# EAGLE library part LPC4322JBD144 (library nxp_60_1_1)
32-bit ARM Cortex-M4/M0 MCU; up to 1 MB flash and 136 kB SRAM; Ethernet, two High-speed USB, LCD, EMC The LPC435x/3x/2x/1x are ARM Cortex-M4 based microcontrollers for embedded applications which include an ARM Cortex-M0 coprocessor, up to 1 MB of flash and 136 kB of on-chip SRAM, 16 kB of EEPROM memory, a quad SPI Flash Interface (SPIFI), advanced configurable peripherals such as the State Configurable Timer (SCT) and the Serial General Purpose I/O (SGPIO) interface, two High-speed USB controllers, Ethernet, LCD, an external memory controller, and multiple digital and analog peripherals. The LPC435x/3x/2x/1x operate at CPU frequencies of up to 204 MHz. The ARM Cortex-M4 is a next generation 32-bit core that offers system enhancements such as low power consumption, enhanced debug features, and a high level of support block integration. The ARM Cortex-M4 CPU incorporates a 3-stage pipeline, uses a Harvard architecture with separate local instruction and data buses as well as a third bus for peripherals, and includes an internal prefetch unit that supports speculative branching. The ARM Cortex-M4 supports single-cycle digital signal processing and SIMD instructions. A hardware floating-point unit is integrated in the core. The ARM Cortex-M0 coprocessor is an energy-efficient and easy-to-use 32-bit core which is upward code- and tool-compatible with the Cortex-M4 core. The Cortex-M0 coprocessor, designed as a replacement for existing 8/16-bit microcontrollers, offers up to 204 MHz performance with a simple instruction set and reduced code size. AAL Eindhoven MK
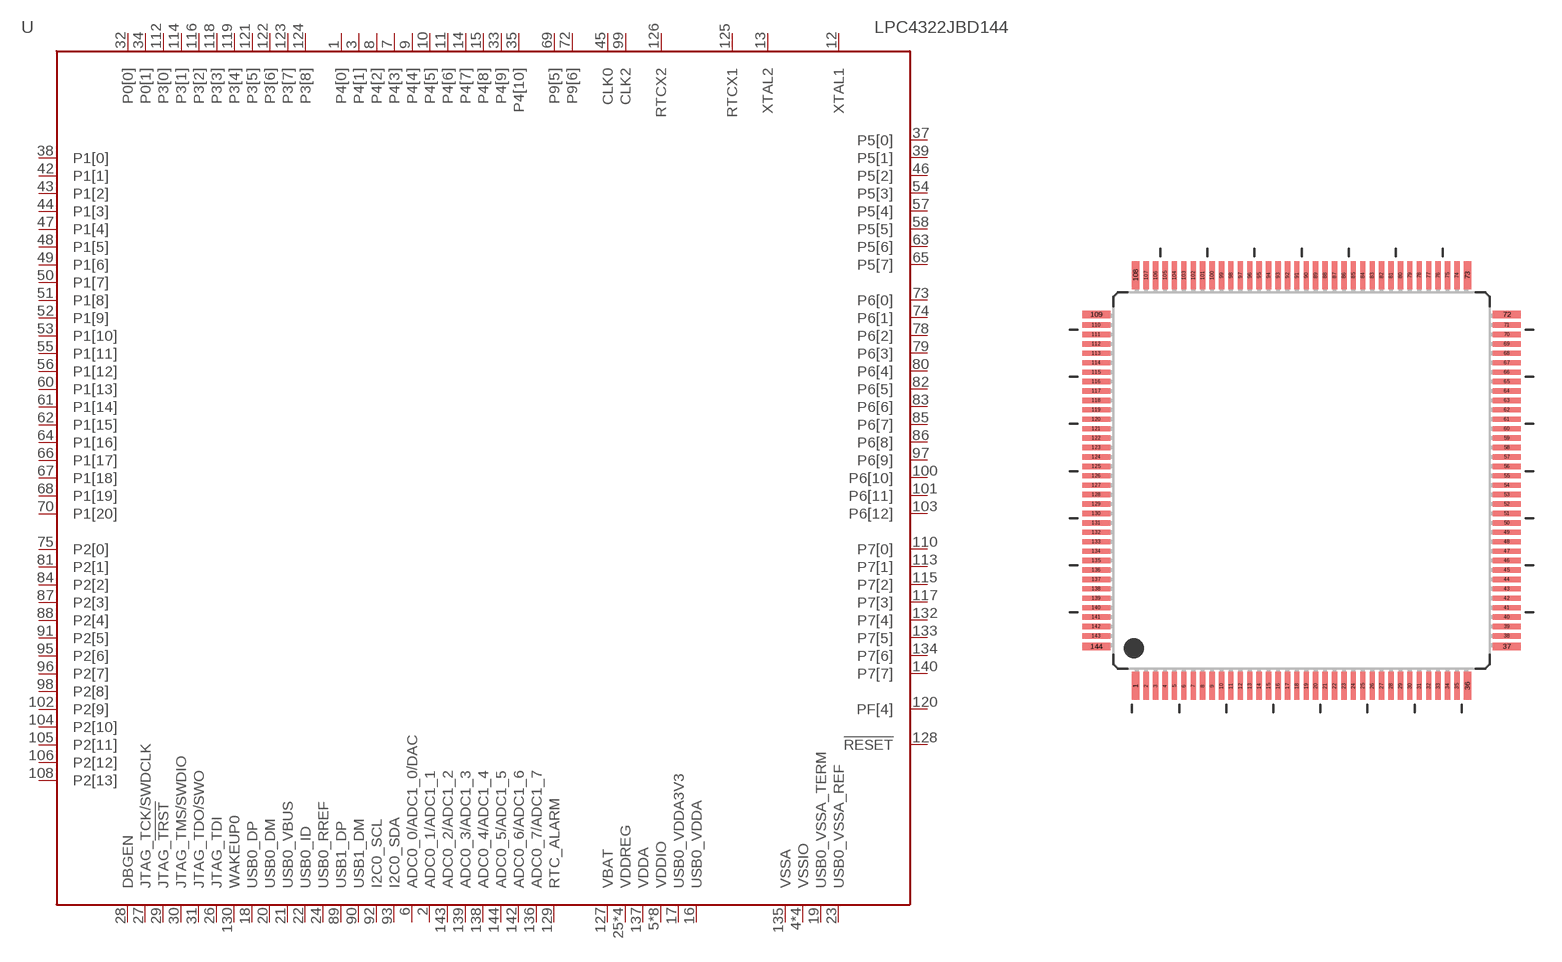
[diagram p162: symbol with the pads of SOT486-1; footprint SOT486-1]

Designator prefix U

## LPC4322JBD144  [SOT486-1]
1  P4[0]
2  ADC0_1/ADC1_1  in
3  P4[1]
4  VSSIO  pwr
5  VDDIO  pwr
6  ADC0_0/ADC1_0/DAC  in
7  P4[3]
8  P4[2]
9  P4[4]
10  P4[5]
11  P4[6]
12  XTAL1  in
13  XTAL2  out
14  P4[7]
15  P4[8]
16  USB0_VDDA  pwr
17  USB0_VDDA3V3  pwr
18  USB0_DP
19  USB0_VSSA_TERM  pwr
20  USB0_DM
21  USB0_VBUS
22  USB0_ID  in
23  USB0_VSSA_REF  pwr
24  USB0_RREF  pas
25  VDDREG  pwr
26  JTAG_TDI  in
27  JTAG_TCK/SWDCLK  in
28  DBGEN  in
29  JTAG_!TRST  in
30  JTAG_TMS/SWDIO  in
31  JTAG_TDO/SWO  out
32  P0[0]
33  P4[9]
34  P0[1]
35  P4[10]
36  VDDIO  pwr
37  P5[0]
38  P1[0]
39  P5[1]
40  VSSIO  pwr
41  VDDIO  pwr
42  P1[1]
43  P1[2]
44  P1[3]
45  CLK0
46  P5[2]
47  P1[4]
48  P1[5]
49  P1[6]
50  P1[7]
51  P1[8]
52  P1[9]
53  P1[10]
54  P5[3]
55  P1[11]
56  P1[12]
57  P5[4]
58  P5[5]
59  VDDREG  pwr
60  P1[13]
61  P1[14]
62  P1[15]
63  P5[6]
64  P1[16]
65  P5[7]
66  P1[17]
67  P1[18]
68  P1[19]
69  P9[5]
70  P1[20]
71  VDDIO  pwr
72  P9[6]
73  P6[0]
74  P6[1]
75  P2[0]
76  VSSIO  pwr
77  VDDIO  pwr
78  P6[2]
79  P6[3]
80  P6[4]
81  P2[1]
82  P6[5]
83  P6[6]
84  P2[2]
85  P6[7]
86  P6[8]
87  P2[3]
88  P2[4]
89  USB1_DP
90  USB1_DM
91  P2[5]
92  I2C0_SCL
93  I2C0_SDA
94  VDDREG  pwr
95  P2[6]
96  P2[7]
97  P6[9]
98  P2[8]
99  CLK2
100  P6[10]
101  P6[11]
102  P2[9]
103  P6[12]
104  P2[10]
105  P2[11]
106  P2[12]
107  VDDIO  pwr
108  P2[13]
109  VSSIO  pwr
110  P7[0]
111  VDDIO  pwr
112  P3[0]
113  P7[1]
114  P3[1]
115  P7[2]
116  P3[2]
117  P7[3]
118  P3[3]
119  P3[4]
120  PF[4]
121  P3[5]
122  P3[6]
123  P3[7]
124  P3[8]
125  RTCX1  in
126  RTCX2  out
127  VBAT  pwr
128  !RESET!  in
129  RTC_ALARM  out
130  WAKEUP0  in
131  VDDREG  pwr
132  P7[4]
133  P7[5]
134  P7[6]
135  VSSA  pwr
136  ADC0_7/ADC1_7  in
137  VDDA  pwr
138  ADC0_4/ADC1_4  in
139  ADC0_3/ADC1_3  in
140  P7[7]
141  VDDIO  pwr
142  ADC0_6/ADC1_6  in
143  ADC0_2/ADC1_2  in
144  ADC0_5/ADC1_5  in

## Footprint SOT486-1 (pad centres in mm)
SOT486-1 LQFP144: plastic low profile quad flat package; 144 leads; body 20 x 20 x 1.4 mm JEDEC: MS-026 IEC: 136E23
smd 0.4 x 1.5: 1 -8.81,-10.9; 36 8.81,-10.9; 73 8.81,10.9; 108 -8.81,10.9
smd 0.28 x 1.5: 2 -8.25,-10.9; 3 -7.75,-10.9; 4 -7.25,-10.9; 5 -6.75,-10.9; 6 -6.25,-10.9; 7 -5.75,-10.9; 8 -5.25,-10.9; 9 -4.75,-10.9; 10 -4.25,-10.9; 11 -3.75,-10.9; 12 -3.25,-10.9; 13 -2.75,-10.9; 14 -2.25,-10.9; 15 -1.75,-10.9; 16 -1.25,-10.9; 17 -0.75,-10.9; 18 -0.25,-10.9; 19 0.25,-10.9; 20 0.75,-10.9; 21 1.25,-10.9; 22 1.75,-10.9; 23 2.25,-10.9; 24 2.75,-10.9; 25 3.25,-10.9; 26 3.75,-10.9; 27 4.25,-10.9; 28 4.75,-10.9; 29 5.25,-10.9; 30 5.75,-10.9; 31 6.25,-10.9; 32 6.75,-10.9; 33 7.25,-10.9; 34 7.75,-10.9; 35 8.25,-10.9; 74 8.25,10.9; 75 7.75,10.9; 76 7.25,10.9; 77 6.75,10.9; 78 6.25,10.9; 79 5.75,10.9; 80 5.25,10.9; 81 4.75,10.9; 82 4.25,10.9; 83 3.75,10.9; 84 3.25,10.9; 85 2.75,10.9; 86 2.25,10.9; 87 1.75,10.9; 88 1.25,10.9; 89 0.75,10.9; 90 0.25,10.9; 91 -0.25,10.9; 92 -0.75,10.9; 93 -1.25,10.9; 94 -1.75,10.9; 95 -2.25,10.9; 96 -2.75,10.9; 97 -3.25,10.9; 98 -3.75,10.9; 99 -4.25,10.9; 100 -4.75,10.9; 101 -5.25,10.9; 102 -5.75,10.9; 103 -6.25,10.9; 104 -6.75,10.9; 105 -7.25,10.9; 106 -7.75,10.9; 107 -8.25,10.9
smd 1.5 x 0.4: 37 10.9,-8.81; 72 10.9,8.81; 109 -10.9,8.81; 144 -10.9,-8.81
smd 1.5 x 0.28: 38 10.9,-8.25; 39 10.9,-7.75; 40 10.9,-7.25; 41 10.9,-6.75; 42 10.9,-6.25; 43 10.9,-5.75; 44 10.9,-5.25; 45 10.9,-4.75; 46 10.9,-4.25; 47 10.9,-3.75; 48 10.9,-3.25; 49 10.9,-2.75; 50 10.9,-2.25; 51 10.9,-1.75; 52 10.9,-1.25; 53 10.9,-0.75; 54 10.9,-0.25; 55 10.9,0.25; 56 10.9,0.75; 57 10.9,1.25; 58 10.9,1.75; 59 10.9,2.25; 60 10.9,2.75; 61 10.9,3.25; 62 10.9,3.75; 63 10.9,4.25; 64 10.9,4.75; 65 10.9,5.25; 66 10.9,5.75; 67 10.9,6.25; 68 10.9,6.75; 69 10.9,7.25; 70 10.9,7.75; 71 10.9,8.25; 110 -10.9,8.25; 111 -10.9,7.75; 112 -10.9,7.25; 113 -10.9,6.75; 114 -10.9,6.25; 115 -10.9,5.75; 116 -10.9,5.25; 117 -10.9,4.75; 118 -10.9,4.25; 119 -10.9,3.75; 120 -10.9,3.25; 121 -10.9,2.75; 122 -10.9,2.25; 123 -10.9,1.75; 124 -10.9,1.25; 125 -10.9,0.75; 126 -10.9,0.25; 127 -10.9,-0.25; 128 -10.9,-0.75; 129 -10.9,-1.25; 130 -10.9,-1.75; 131 -10.9,-2.25; 132 -10.9,-2.75; 133 -10.9,-3.25; 134 -10.9,-3.75; 135 -10.9,-4.25; 136 -10.9,-4.75; 137 -10.9,-5.25; 138 -10.9,-5.75; 139 -10.9,-6.25; 140 -10.9,-6.75; 141 -10.9,-7.25; 142 -10.9,-7.75; 143 -10.9,-8.25